# EAGLE library part PIC16F1619-DIP (library PIC-parts)
PIC 16F1619 20 pin DIP
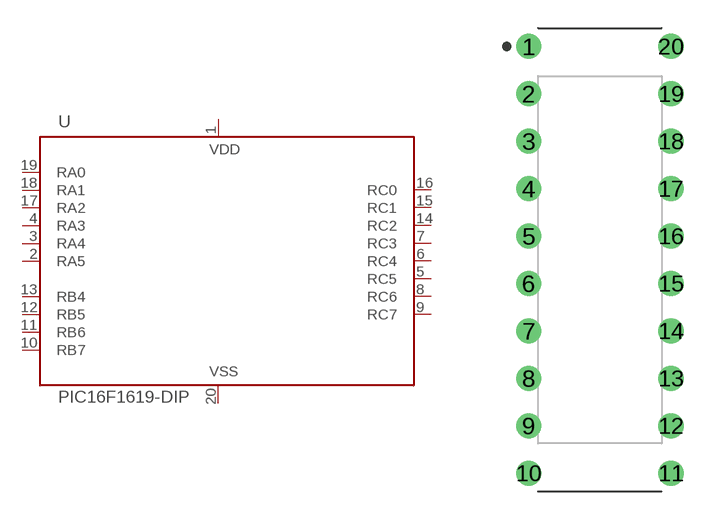
[diagram p1: symbol with the pads of DIP20B; footprint DIP20B]

Designator prefix -

## PIC16F1619-DIP  [DIP20B]
1  VDD  pwr
2  RA5
3  RA4
4  RA3  in
5  RC5
6  RC4
7  RC3
8  RC6
9  RC7
10  RB7
11  RB6
12  RB5
13  RB4
14  RC2
15  RC1
16  RC0
17  RA2
18  RA1
19  RA0
20  VSS  pwr

## Footprint DIP20B (pad centres in mm)
20-DIP, 2.54 mm (0.10 in) pitch, 7.62 mm (0.30 in) span, 19.69 X 6.60 X 5.08 mm body 20-pin DIP package with 2.54 mm (0.10 in) pitch, 7.62 mm (0.30 in) span with body size 19.69 X 6.60 X 5.08 mm
drill 0.743 pad 1.343: 1 -3.81,11.43; 2 -3.81,8.89; 3 -3.81,6.35; 4 -3.81,3.81; 5 -3.81,1.27; 6 -3.81,-1.27; 7 -3.81,-3.81; 8 -3.81,-6.35; 9 -3.81,-8.89; 10 -3.81,-11.43; 11 3.81,-11.43; 12 3.81,-8.89; 13 3.81,-6.35; 14 3.81,-3.81; 15 3.81,-1.27; 16 3.81,1.27; 17 3.81,3.81; 18 3.81,6.35; 19 3.81,8.89; 20 3.81,11.43